# Altium schematic symbol library B78416A2232A003.SchLib: 1 symbol
Pins are listed as number, name and electrical type; pins without a type are passive.

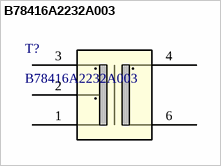
[diagram p0: symbol B78416A2232A003]

## B78416A2232A003
designator T?
Description; Manufacturer_Name: TDK; Copyright: Copyright (C) 2025 Ultra Librarian. All rights reserved.; Manufacturer_Part_Number: B78416A2232A003; RefDes: RefDes; Type: Type
footprint B78416_TDK
pins: 1, 2, 3, 4, 6